# Altium footprint library NRF24.PcbLib: 1 footprints
Each footprint in its own frame and in the unit in brackets; x right, y up, seen from the top. Pads: shape width x height; smd on the part's side, far side on the other; paste and mask are expansions set on the pad; w line width, h text height; cw(c..) or ccw(c..) is an arc to the next point about the centre after c.
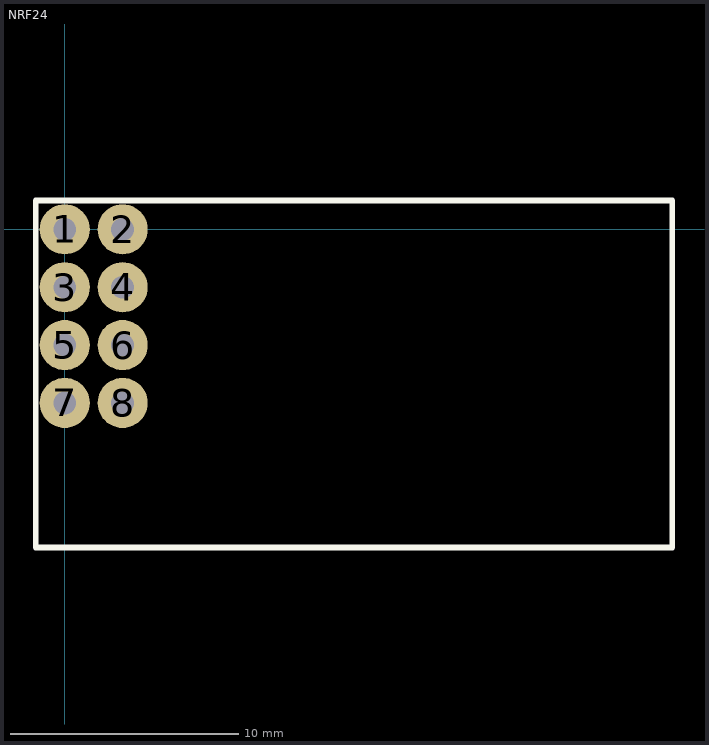
[diagram p0: the footprint, top view; thin cyan lines are the x and y axes]

## NRF24 [mm]
height 2
pads (8):
  round 2.2 hole 1: 1(0,0) 2(2.54,0) 3(0,-2.54) 4(2.54,-2.54) 5(0,-5.08) 6(2.54,-5.08) 7(0,-7.62) 8(2.54,-7.62)
Top Overlay:
  lines w0.254: -1.27,-13.97 10.16,-13.97 22.86,-13.97 26.67,-13.97 26.67,-3.81 26.67,1.27 17.78,1.27 15.24,1.27 -1.27,1.27 -1.27,-13.97